# EAGLE library part NCP380 (library pimoroni-ics)
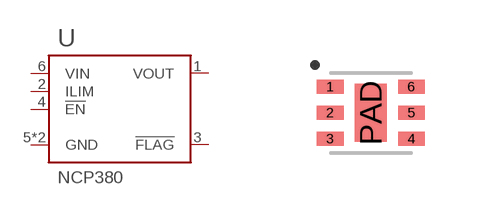
[diagram p20: symbol with the pads of UDFN-6; footprint UDFN-6]

Designator prefix U

## NCP380LMUAJAATBG  [UDFN-6]
1  VOUT
2  ILIM
3  !FLAG
4  !EN
5  GND
6  VIN
PAD  GND

## Footprint UDFN-6 (pad centres in mm)
smd 0.67 x 0.35: 1 -1.015,0.65; 2 -1.015,0; 3 -1.015,-0.65; 4 1.015,-0.65; 5 1.015,0; 6 1.015,0.65
smd 0.8 x 1.45: PAD 0,0